# Altium schematic symbol library VERSTERKERS.SchLib: 1 symbol
Pins are listed as number, name and electrical type; pins without a type are passive.

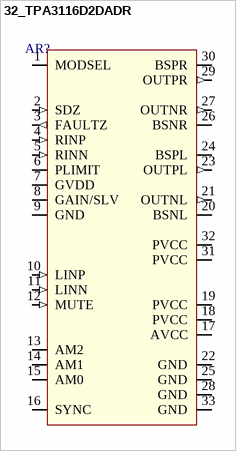
[diagram p0: symbol 32_TPA3116D2DADR]

## 32_TPA3116D2DADR
designator AR?  (value not drawn)
class-D,50W,THD+N=0.1,4.5V-26V
footprint TSSOP-32+G_TPA3116D2DADR (class-D,50W,THD+N=0.1,4.5V-26V)
pins: 1 MODSEL (power), 2 SDZ (in), 3 FAULTZ (out), 4 RINP (in), 5 RINN (in), 6 PLIMIT (power), 7 GVDD (power), 8 GAIN/SLV (power), 9 GND (power), 10 LINP (in), 11 LINN (in), 12 MUTE (in), 13 AM2, 14 AM1, 15 AM0, 16 SYNC (hiz), 17 AVCC (power), 18 PVCC (power), 19 PVCC (power), 20 BSNL, 21 OUTNL (out), 22 GND (power), 23 OUTPL (out), 24 BSPL, 25 GND (power), 26 BSNR, 27 OUTNR (out), 28 GND (power), 29 OUTPR (out), 30 BSPR, 31 PVCC (power), 32 PVCC (power), 33 GND (power)